# EAGLE library part BQ76940 (library FlashPCB_ICs)
BQ76940 - IC BATT MON MULTI 9-15C 44TSSOP Technical Specifications: Function: Battery Monitor Battery Chemistry: Multi-Chemistry Number of Cells: 9 ~ 15 Fault Protection: Over Current, Over/Under Voltage, Short Circuit Interface: I2C Operating Temperature: -40°C ~ 85°C (TA) Component Search: BQ76940 <https://www.flashpcb.com/components?page=1&searchTerms=BQ76940> Datasheet: BQ769x0 <https://www.ti.com/lit/ds/symlink/bq76920.pdf?HQS=dis-dk-null-digikeymode-dsf-pf-null-wwe&ts=1713993875863&ref_url=https%253A%252F%252Fwww.ti.com%252Fgeneral%252Fdocs%252Fsuppproductinfo.tsp%253FdistId%253D10%2526gotoUrl%253Dhttps%253A%252F%252Fwww.ti.com%252Flit%252Fgpn%252Fbq76920>
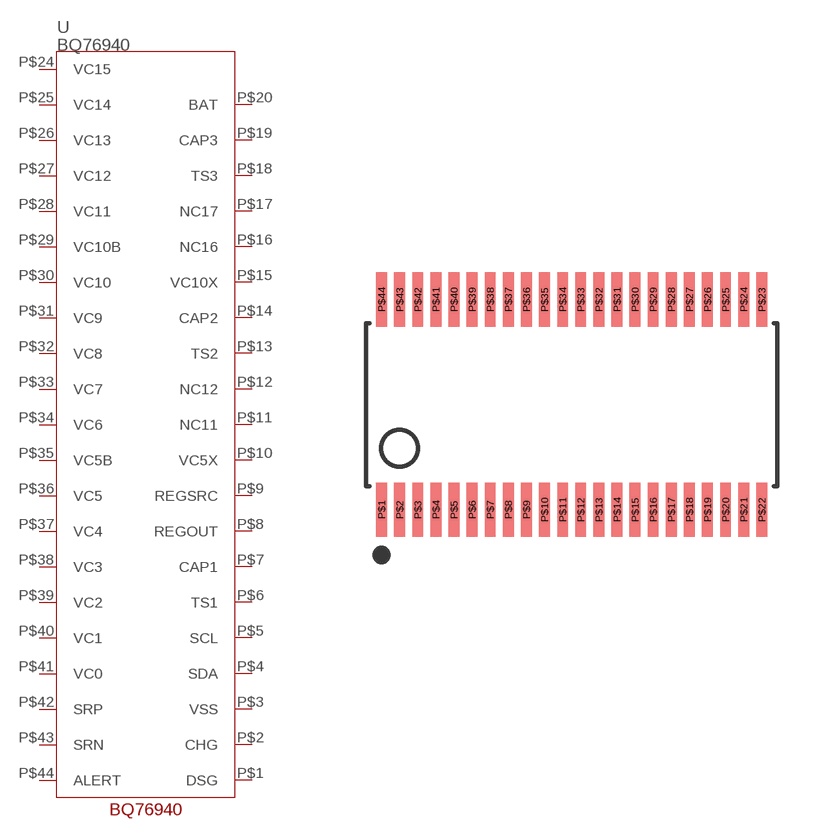
[diagram p31: symbol with the pads of 44-TSSOP; footprint 44-TSSOP]

Designator prefix U

## BQ76940  [44-TSSOP]
P$1  DSG
P$2  CHG
P$3  VSS
P$4  SDA
P$5  SCL
P$6  TS1
P$7  CAP1
P$8  REGOUT
P$9  REGSRC
P$10  VC5X
P$11  NC11
P$12  NC12
P$13  TS2
P$14  CAP2
P$15  VC10X
P$16  NC16
P$17  NC17
P$18  TS3
P$19  CAP3
P$20  BAT
P$24  VC15
P$25  VC14
P$26  VC13
P$27  VC12
P$28  VC11
P$29  VC10B
P$30  VC10
P$31  VC9
P$32  VC8
P$33  VC7
P$34  VC6
P$35  VC5B
P$36  VC5
P$37  VC4
P$38  VC3
P$39  VC2
P$40  VC1
P$41  VC0
P$42  SRP
P$43  SRN
P$44  ALERT

## Footprint 44-TSSOP (pad centres in mm)
smd 0.3 x 1.5: P$1 -5.25,-2.9; P$2 -4.75,-2.9; P$3 -4.25,-2.9; P$4 -3.75,-2.9; P$5 -3.25,-2.9; P$6 -2.75,-2.9; P$7 -2.25,-2.9; P$8 -1.75,-2.9; P$9 -1.25,-2.9; P$10 -0.75,-2.9; P$11 -0.25,-2.9; P$12 0.25,-2.9; P$13 0.75,-2.9; P$14 1.25,-2.9; P$15 1.75,-2.9; P$16 2.25,-2.9; P$17 2.75,-2.9; P$18 3.25,-2.9; P$19 3.75,-2.9; P$20 4.25,-2.9; P$21 4.75,-2.9; P$22 5.25,-2.9; P$23 5.25,2.9; P$24 4.75,2.9; P$25 4.25,2.9; P$26 3.75,2.9; P$27 3.25,2.9; P$28 2.75,2.9; P$29 2.25,2.9; P$30 1.75,2.9; P$31 1.25,2.9; P$32 0.75,2.9; P$33 0.25,2.9; P$34 -0.25,2.9; P$35 -0.75,2.9; P$36 -1.25,2.9; P$37 -1.75,2.9; P$38 -2.25,2.9; P$39 -2.75,2.9; P$40 -3.25,2.9; P$41 -3.75,2.9; P$42 -4.25,2.9; P$43 -4.75,2.9; P$44 -5.25,2.9